# EAGLE library part NRF51822-LEFT (library icarus_sensors)
left connector of NFR518822 board
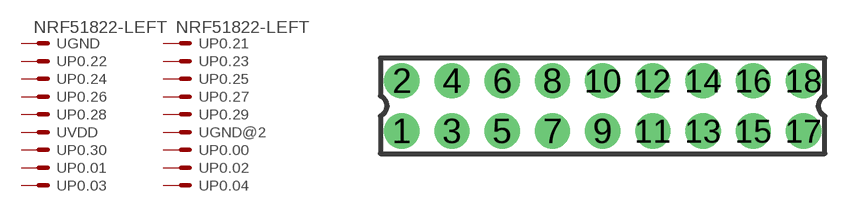
[diagram p7: symbol with the pads of NRF51822-LEFT; footprint NRF51822-LEFT]

Designator prefix -; gates GND=MV GND@2=M P0.00=M P0.01=M P0.02=M P0.03=M P0.04=M P0.21=MV P0.22=M P0.23=M P0.24=M P0.25=M P0.26=M P0.27=M P0.28=M P0.29=M P0.30=M VDD=M

## NRF51822-LEFT (MPN: NRF51822-left; OC_FARNELL: unknown; OC_NEWARK: 25M5675)  [NRF51822-LEFT]
1  GND:S  pas
2  P0.21:S  pas
3  P0.22:S  pas
4  P0.23:S  pas
5  P0.24:S  pas
6  P0.25:S  pas
7  P0.26:S  pas
8  P0.27:S  pas
9  P0.28:S  pas
10  P0.29:S  pas
11  VDD:S  pas
12  GND@2:S  pas
13  P0.30:S  pas
14  P0.00:S  pas
15  P0.01:S  pas
16  P0.02:S  pas
17  P0.03:S  pas
18  P0.04:S  pas

## Footprint NRF51822-LEFT (pad centres in mm)
18 Pin - 2mm Dual Row Single Wafer, Vertical T/H HDR Source: http://www.molex.com/pdm_docs/sd/877580616_sd.pdf
drill 0.9 pad 1.27: 1 -8,-1; 2 -8,1; 3 -6,-1; 4 -6,1; 5 -4,-1; 6 -4,1; 7 -2,-1; 8 -2,1; 9 0,-1; 10 0,1; 11 2,-1; 12 2,1; 13 4,-1; 14 4,1; 15 6,-1; 16 6,1; 17 8,-1; 18 8,1